# Altium schematic symbol library AutomaticBacklight.SchLib: 3 symbols
Pins are listed as number, name and electrical type; pins without a type are passive.

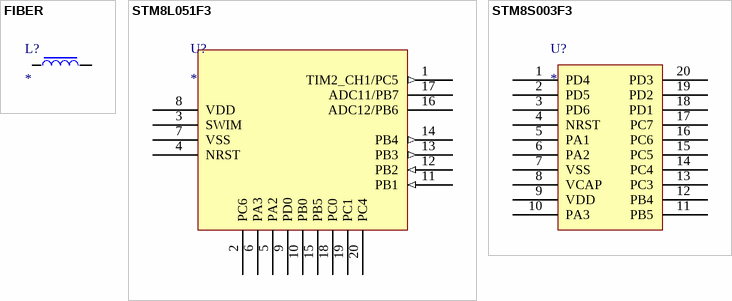
[diagram p0: symbols FIBER to STM8S003F3]

## FIBER
designator L?
pins: 1, 2

## STM8L051F3
designator U?
pins: 1 TIM2_CH1/PC5 (out), 2 PC6, 3 SWIM, 4 NRST, 5 PA2, 6 PA3, 7 VSS (power), 8 VDD (power) "VCAP", 9 PD0 "VDD", 10 PB0, 11 PB1 (in), 12 PB2 (in), 13 PB3 (out), 14 PB4 (out) "GPIO_Output", 15 PB5 "GPIO_Output", 16 ADC12/PB6 (hiz) "GPIO_Output", 17 ADC11/PB7 (hiz), 18 PC0, 19 PC1, 20 PC4

## STM8S003F3
designator U?
pins: 1 PD4, 2 PD5, 3 PD6, 4 NRST, 5 PA1, 6 PA2, 7 VSS (power), 8 VCAP (power), 9 VDD (power), 10 PA3, 11 PB5, 12 PB4, 13 PC3 "GPIO_Output", 14 PC4, 15 PC5 "GPIO_Output", 16 PC6 "GPIO_Output", 17 PC7, 18 PD1, 19 PD2, 20 PD3